# Altium schematic symbol library mosfet-smd.SchLib: 3 symbols
Pins are listed as number, name and electrical type; pins without a type are passive.

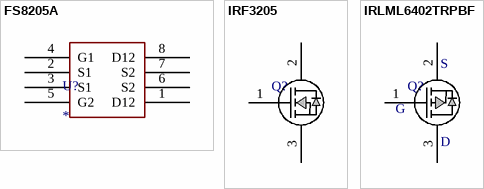
[diagram p0: symbols FS8205A to IRLML6402TRPBF]

## FS8205A
designator U?
footprint TSSOP8
pins: 1 D12, 2 S1, 3 S1, 4 G1, 5 G2, 6 S2, 7 S2, 8 D12

## IRF3205
designator Q?
N-Channel 55V 110A (Tc) 200W (Tc) Through Hole TO-220AB
footprint TO220AB
pins: 1 G, 2 D, 3 S

## IRLML6402TRPBF
designator Q?
P-Channel 20V 3.7A (Ta) 1.3W (Ta) Surface Mount Micro3™/SOT-23; Local Supplier: thegioiic; Local Supplier Link: https://www.thegioiic.com/products/irlml6402trpbf; Local Supplier Part Number: *
footprint SOT23_NEX
pins: 1 G, 2 S, 3 D